# Altium footprint library Connector_IDC.PcbLib: 182 footprints (part 8 of 12)
Each footprint in its own frame and in the unit in brackets; x right, y up, seen from the top. Pads: shape width x height; smd on the part's side, far side on the other; paste and mask are expansions set on the pad; w line width, h text height; cw(c..) or ccw(c..) is an arc to the next point about the centre after c.
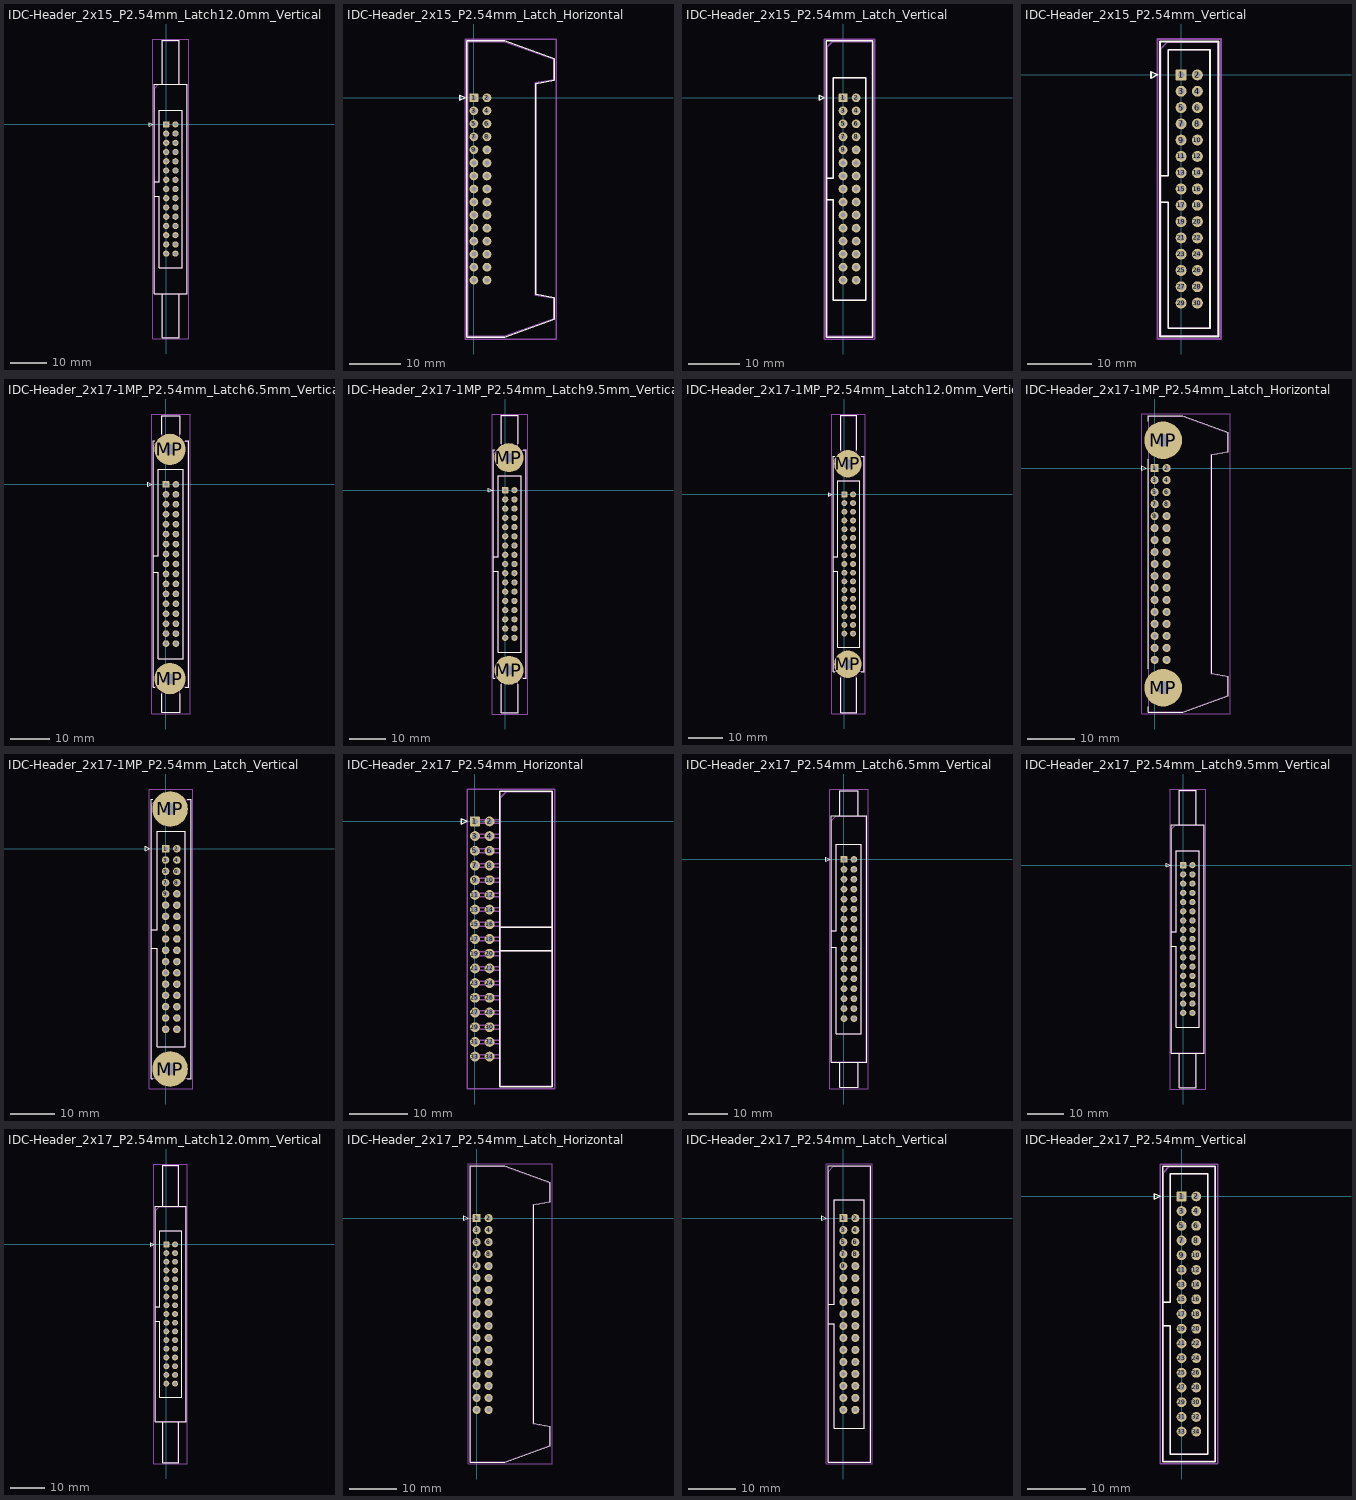
[diagram p7: the footprints below, top view; thin cyan lines are the x and y axes]

## IDC-Header_2x15_P2.54mm_Latch12.0mm_Vertical [mm]
pads (30):
  rrect15% 1.7x1.7 hole 1: 1(0,0)
  round 1.7 hole 1: 2(2.54,0) 3(0,-2.54) 4(2.54,-2.54) 5(0,-5.08) 6(2.54,-5.08) 7(0,-7.62) 8(2.54,-7.62) 9(0,-10.16) 10(2.54,-10.16) 11(0,-12.7) 12(2.54,-12.7) 13(0,-15.24) 14(2.54,-15.24) 15(0,-17.78) 16(2.54,-17.78) 17(0,-20.32) 18(2.54,-20.32) 19(0,-22.86) 20(2.54,-22.86) 21(0,-25.4) 22(2.54,-25.4) 23(0,-27.94) 24(2.54,-27.94) 25(0,-30.48) 26(2.54,-30.48) 27(0,-33.02) 28(2.54,-33.02) 29(0,-35.56) 30(2.54,-35.56)
F.SilkS:
  lines w0.254: -3.24,-19.83 -1.93,-19.83 -1.93,-39.48 4.47,-39.48 4.47,3.92 -1.93,3.92 -1.93,-15.73 -3.24,-15.73 ; -1.04,-46.64 -1.04,-58.64 3.58,-58.64 3.58,-46.64 ; -1.04,11.08 -1.04,23.08 3.58,23.08 3.58,11.08 ; -4.63,-0.5 -3.63,0 -4.63,0.5 -4.63,-0.5 ; -3.24,-46.64 5.78,-46.64 5.78,11.08 -3.24,11.08 -3.24,-46.64
Top Assembly:
  lines w0.254: -3.13,-19.83 -1.93,-19.83 -1.93,-39.48 4.47,-39.48 4.47,3.92 -1.93,3.92 -1.93,-15.73 -3.13,-15.73 ; -0.93,-46.53 -0.93,-58.53 3.47,-58.53 3.47,-46.53 ; -0.93,10.97 -0.93,22.97 3.47,22.97 3.47,10.97 ; -3.13,-46.53 5.67,-46.53 5.67,10.97 -2.13,10.97 -3.13,9.97 -3.13,-46.53
  text "'.Designator'" at 2.11,-21.827 h1
Top Courtyard:
  lines w0.254: -3.63,-59.03 6.17,-59.03 6.17,23.47 -3.63,23.47 -3.63,-59.03
Top Designator:
  text ".Designator" at -6.848,-18.288 h1.52

## IDC-Header_2x15_P2.54mm_Latch_Horizontal [mm]
pads (30):
  rrect15% 1.7x1.7 hole 1: 1(0,0)
  round 1.7 hole 1: 2(2.54,0) 3(0,-2.54) 4(2.54,-2.54) 5(0,-5.08) 6(2.54,-5.08) 7(0,-7.62) 8(2.54,-7.62) 9(0,-10.16) 10(2.54,-10.16) 11(0,-12.7) 12(2.54,-12.7) 13(0,-15.24) 14(2.54,-15.24) 15(0,-17.78) 16(2.54,-17.78) 17(0,-20.32) 18(2.54,-20.32) 19(0,-22.86) 20(2.54,-22.86) 21(0,-25.4) 22(2.54,-25.4) 23(0,-27.94) 24(2.54,-27.94) 25(0,-30.48) 26(2.54,-30.48) 27(0,-33.02) 28(2.54,-33.02) 29(0,-35.56) 30(2.54,-35.56)
F.SilkS:
  lines w0.254: -2.74,-0.5 -1.74,0 -2.74,0.5 -2.74,-0.5 ; -1.35,-46.64 5.98,-46.64 15.64,-43.17 15.64,-38.98 12.08,-38.35 12.08,2.79 15.64,3.42 15.64,7.61 5.98,11.08 -1.35,11.08 -1.35,-46.64
Top Assembly:
  lines w0.254: -1.24,-46.53 5.87,-46.53 15.53,-43.06 15.53,-39.09 11.97,-38.46 11.97,2.9 15.53,3.53 15.53,7.5 5.87,10.97 -1.24,10.97 -1.24,-46.53
  text "'.Designator'" at 7.985,-21.827 h1
Top Courtyard:
  lines w0.254: -1.74,-47.03 16.03,-47.03 16.03,11.47 -1.74,11.47 -1.74,-47.03
Top Designator:
  text ".Designator" at -0.973,-18.288 h1.52

## IDC-Header_2x15_P2.54mm_Latch_Vertical [mm]
pads (30):
  rrect15% 1.7x1.7 hole 1: 1(0,0)
  round 1.7 hole 1: 2(2.54,0) 3(0,-2.54) 4(2.54,-2.54) 5(0,-5.08) 6(2.54,-5.08) 7(0,-7.62) 8(2.54,-7.62) 9(0,-10.16) 10(2.54,-10.16) 11(0,-12.7) 12(2.54,-12.7) 13(0,-15.24) 14(2.54,-15.24) 15(0,-17.78) 16(2.54,-17.78) 17(0,-20.32) 18(2.54,-20.32) 19(0,-22.86) 20(2.54,-22.86) 21(0,-25.4) 22(2.54,-25.4) 23(0,-27.94) 24(2.54,-27.94) 25(0,-30.48) 26(2.54,-30.48) 27(0,-33.02) 28(2.54,-33.02) 29(0,-35.56) 30(2.54,-35.56)
F.SilkS:
  lines w0.254: -3.24,-19.83 -1.93,-19.83 -1.93,-39.48 4.47,-39.48 4.47,3.92 -1.93,3.92 -1.93,-15.73 -3.24,-15.73 ; -4.63,-0.5 -3.63,0 -4.63,0.5 -4.63,-0.5 ; -3.24,-46.64 5.78,-46.64 5.78,11.08 -3.24,11.08 -3.24,-46.64
Top Assembly:
  lines w0.254: -3.13,-19.83 -1.93,-19.83 -1.93,-39.48 4.47,-39.48 4.47,3.92 -1.93,3.92 -1.93,-15.73 -3.13,-15.73 ; -3.13,-46.53 5.67,-46.53 5.67,10.97 -2.13,10.97 -3.13,9.97 -3.13,-46.53
  text "'.Designator'" at 2.11,-21.827 h1
Top Courtyard:
  lines w0.254: -3.63,-47.03 6.17,-47.03 6.17,11.47 -3.63,11.47 -3.63,-47.03
Top Designator:
  text ".Designator" at -6.848,-18.288 h1.52

## IDC-Header_2x15_P2.54mm_Vertical [mm]
pads (30):
  rrect15% 1.7x1.7 hole 1: 1(0,0)
  round 1.7 hole 1: 2(2.54,0) 3(0,-2.54) 4(2.54,-2.54) 5(0,-5.08) 6(2.54,-5.08) 7(0,-7.62) 8(2.54,-7.62) 9(0,-10.16) 10(2.54,-10.16) 11(0,-12.7) 12(2.54,-12.7) 13(0,-15.24) 14(2.54,-15.24) 15(0,-17.78) 16(2.54,-17.78) 17(0,-20.32) 18(2.54,-20.32) 19(0,-22.86) 20(2.54,-22.86) 21(0,-25.4) 22(2.54,-25.4) 23(0,-27.94) 24(2.54,-27.94) 25(0,-30.48) 26(2.54,-30.48) 27(0,-33.02) 28(2.54,-33.02) 29(0,-35.56) 30(2.54,-35.56)
F.SilkS:
  lines w0.254: -3.29,-19.83 -1.98,-19.83 -1.98,-39.47 4.52,-39.47 4.52,3.91 -1.98,3.91 -1.98,-15.73 -3.29,-15.73 ; -4.68,-0.5 -3.68,0 -4.68,0.5 -4.68,-0.5 ; -3.29,-40.77 5.83,-40.77 5.83,5.21 -3.29,5.21 -3.29,-40.77
Top Assembly:
  lines w0.254: -3.18,-19.83 -1.98,-19.83 -1.98,-39.47 4.52,-39.47 4.52,3.91 -1.98,3.91 -1.98,-15.73 -3.18,-15.73 ; -3.18,-40.66 5.72,-40.66 5.72,5.1 -2.18,5.1 -3.18,4.1 -3.18,-40.66
  text "'.Designator'" at 2.11,-21.827 h1
Top Courtyard:
  lines w0.254: -3.68,-41.16 6.22,-41.16 6.22,5.6 -3.68,5.6 -3.68,-41.16
Top Designator:
  text ".Designator" at -6.848,-18.288 h1.52

## IDC-Header_2x17-1MP_P2.54mm_Latch6.5mm_Vertical [mm]
pads (36):
  rrect15% 1.7x1.7 hole 1: 1(0,0)
  round 1.7 hole 1: 2(2.54,0) 3(0,-2.54) 4(2.54,-2.54) 5(0,-5.08) 6(2.54,-5.08) 7(0,-7.62) 8(2.54,-7.62) 9(0,-10.16) 10(2.54,-10.16) 11(0,-12.7) 12(2.54,-12.7) 13(0,-15.24) 14(2.54,-15.24) 15(0,-17.78) 16(2.54,-17.78) 17(0,-20.32) 18(2.54,-20.32) 19(0,-22.86) 20(2.54,-22.86) 21(0,-25.4) 22(2.54,-25.4) 23(0,-27.94) 24(2.54,-27.94) 25(0,-30.48) 26(2.54,-30.48) 27(0,-33.02) 28(2.54,-33.02) 29(0,-35.56) 30(2.54,-35.56) 31(0,-38.1) 32(2.54,-38.1) 33(0,-40.64) 34(2.54,-40.64)
  round 8 hole 2.69: MP(1.02,-49.58) MP(1.02,8.94)
F.SilkS:
  lines w0.254: -3.24,-22.37 -1.93,-22.37 -1.93,-44.56 4.47,-44.56 4.47,3.92 -1.93,3.92 -1.93,-18.27 -3.24,-18.27 ; -2.87,-51.72 -3.24,-51.72 -3.24,11.08 -2.87,11.08 ; -1.04,-53.47 -1.04,-58.22 3.58,-58.22 3.58,-53.47 ; -1.04,12.83 -1.04,17.58 3.58,17.58 3.58,12.83 ; 4.91,-51.72 5.78,-51.72 5.78,11.08 4.91,11.08 ; -4.63,-0.5 -3.63,0 -4.63,0.5 -4.63,-0.5
Top Assembly:
  lines w0.254: -3.13,-22.37 -1.93,-22.37 -1.93,-44.56 4.47,-44.56 4.47,3.92 -1.93,3.92 -1.93,-18.27 -3.13,-18.27 ; -0.93,-51.61 -0.93,-58.11 3.47,-58.11 3.47,-51.61 ; -0.93,10.97 -0.93,17.47 3.47,17.47 3.47,10.97 ; -3.13,-51.61 5.67,-51.61 5.67,10.97 -2.13,10.97 -3.13,9.97 -3.13,-51.61
  text "'.Designator'" at 2.11,-24.367 h1
Top Courtyard:
  lines w0.254: -3.63,-58.61 6.17,-58.61 6.17,17.97 -3.63,17.97 -3.63,-58.61
Top Designator:
  text ".Designator" at -6.848,-20.828 h1.52

## IDC-Header_2x17-1MP_P2.54mm_Latch9.5mm_Vertical [mm]
pads (36):
  rrect15% 1.7x1.7 hole 1: 1(0,0)
  round 1.7 hole 1: 2(2.54,0) 3(0,-2.54) 4(2.54,-2.54) 5(0,-5.08) 6(2.54,-5.08) 7(0,-7.62) 8(2.54,-7.62) 9(0,-10.16) 10(2.54,-10.16) 11(0,-12.7) 12(2.54,-12.7) 13(0,-15.24) 14(2.54,-15.24) 15(0,-17.78) 16(2.54,-17.78) 17(0,-20.32) 18(2.54,-20.32) 19(0,-22.86) 20(2.54,-22.86) 21(0,-25.4) 22(2.54,-25.4) 23(0,-27.94) 24(2.54,-27.94) 25(0,-30.48) 26(2.54,-30.48) 27(0,-33.02) 28(2.54,-33.02) 29(0,-35.56) 30(2.54,-35.56) 31(0,-38.1) 32(2.54,-38.1) 33(0,-40.64) 34(2.54,-40.64)
  round 8 hole 2.69: MP(1.02,-49.58) MP(1.02,8.94)
F.SilkS:
  lines w0.254: -3.24,-22.37 -1.93,-22.37 -1.93,-44.56 4.47,-44.56 4.47,3.92 -1.93,3.92 -1.93,-18.27 -3.24,-18.27 ; -2.87,-51.72 -3.24,-51.72 -3.24,11.08 -2.87,11.08 ; -1.04,-53.47 -1.04,-61.22 3.58,-61.22 3.58,-53.47 ; -1.04,12.83 -1.04,20.58 3.58,20.58 3.58,12.83 ; 4.91,-51.72 5.78,-51.72 5.78,11.08 4.91,11.08 ; -4.63,-0.5 -3.63,0 -4.63,0.5 -4.63,-0.5
Top Assembly:
  lines w0.254: -3.13,-22.37 -1.93,-22.37 -1.93,-44.56 4.47,-44.56 4.47,3.92 -1.93,3.92 -1.93,-18.27 -3.13,-18.27 ; -0.93,-51.61 -0.93,-61.11 3.47,-61.11 3.47,-51.61 ; -0.93,10.97 -0.93,20.47 3.47,20.47 3.47,10.97 ; -3.13,-51.61 5.67,-51.61 5.67,10.97 -2.13,10.97 -3.13,9.97 -3.13,-51.61
  text "'.Designator'" at 2.11,-24.367 h1
Top Courtyard:
  lines w0.254: -3.63,-61.61 6.17,-61.61 6.17,20.97 -3.63,20.97 -3.63,-61.61
Top Designator:
  text ".Designator" at -6.848,-20.828 h1.52

## IDC-Header_2x17-1MP_P2.54mm_Latch12.0mm_Vertical [mm]
pads (36):
  rrect15% 1.7x1.7 hole 1: 1(0,0)
  round 1.7 hole 1: 2(2.54,0) 3(0,-2.54) 4(2.54,-2.54) 5(0,-5.08) 6(2.54,-5.08) 7(0,-7.62) 8(2.54,-7.62) 9(0,-10.16) 10(2.54,-10.16) 11(0,-12.7) 12(2.54,-12.7) 13(0,-15.24) 14(2.54,-15.24) 15(0,-17.78) 16(2.54,-17.78) 17(0,-20.32) 18(2.54,-20.32) 19(0,-22.86) 20(2.54,-22.86) 21(0,-25.4) 22(2.54,-25.4) 23(0,-27.94) 24(2.54,-27.94) 25(0,-30.48) 26(2.54,-30.48) 27(0,-33.02) 28(2.54,-33.02) 29(0,-35.56) 30(2.54,-35.56) 31(0,-38.1) 32(2.54,-38.1) 33(0,-40.64) 34(2.54,-40.64)
  round 8 hole 2.69: MP(1.02,-49.58) MP(1.02,8.94)
F.SilkS:
  lines w0.254: -3.24,-22.37 -1.93,-22.37 -1.93,-44.56 4.47,-44.56 4.47,3.92 -1.93,3.92 -1.93,-18.27 -3.24,-18.27 ; -2.87,-51.72 -3.24,-51.72 -3.24,11.08 -2.87,11.08 ; -1.04,-53.47 -1.04,-63.72 3.58,-63.72 3.58,-53.47 ; -1.04,12.83 -1.04,23.08 3.58,23.08 3.58,12.83 ; 4.91,-51.72 5.78,-51.72 5.78,11.08 4.91,11.08 ; -4.63,-0.5 -3.63,0 -4.63,0.5 -4.63,-0.5
Top Assembly:
  lines w0.254: -3.13,-22.37 -1.93,-22.37 -1.93,-44.56 4.47,-44.56 4.47,3.92 -1.93,3.92 -1.93,-18.27 -3.13,-18.27 ; -0.93,-51.61 -0.93,-63.61 3.47,-63.61 3.47,-51.61 ; -0.93,10.97 -0.93,22.97 3.47,22.97 3.47,10.97 ; -3.13,-51.61 5.67,-51.61 5.67,10.97 -2.13,10.97 -3.13,9.97 -3.13,-51.61
  text "'.Designator'" at 2.11,-24.367 h1
Top Courtyard:
  lines w0.254: -3.63,-64.11 6.17,-64.11 6.17,23.47 -3.63,23.47 -3.63,-64.11
Top Designator:
  text ".Designator" at -6.848,-20.828 h1.52

## IDC-Header_2x17-1MP_P2.54mm_Latch_Horizontal [mm]
pads (36):
  rrect15% 1.7x1.7 hole 1: 1(0,0)
  round 1.7 hole 1: 2(2.54,0) 3(0,-2.54) 4(2.54,-2.54) 5(0,-5.08) 6(2.54,-5.08) 7(0,-7.62) 8(2.54,-7.62) 9(0,-10.16) 10(2.54,-10.16) 11(0,-12.7) 12(2.54,-12.7) 13(0,-15.24) 14(2.54,-15.24) 15(0,-17.78) 16(2.54,-17.78) 17(0,-20.32) 18(2.54,-20.32) 19(0,-22.86) 20(2.54,-22.86) 21(0,-25.4) 22(2.54,-25.4) 23(0,-27.94) 24(2.54,-27.94) 25(0,-30.48) 26(2.54,-30.48) 27(0,-33.02) 28(2.54,-33.02) 29(0,-35.56) 30(2.54,-35.56) 31(0,-38.1) 32(2.54,-38.1) 33(0,-40.64) 34(2.54,-40.64)
  round 8 hole 2.69: MP(1.8,-46.545) MP(1.8,5.905)
F.SilkS:
  lines w0.254: -1.35,-50.545 -1.35,-51.72 5.98,-51.72 15.64,-48.25 15.64,-44.06 12.08,-43.43 12.08,2.79 15.64,3.42 15.64,7.61 5.98,11.08 -1.35,11.08 -1.35,9.905 ; -1.35,-42.545 -1.35,1.905 ; -2.74,-0.5 -1.74,0 -2.74,0.5 -2.74,-0.5
Top Assembly:
  lines w0.254: -1.24,-51.61 5.87,-51.61 15.53,-48.14 15.53,-44.17 11.97,-43.54 11.97,2.9 15.53,3.53 15.53,7.5 5.87,10.97 -1.24,10.97 -1.24,-51.61
  text "'.Designator'" at 7.985,-24.367 h1
Top Courtyard:
  lines w0.254: -2.7,-52.11 16.03,-52.11 16.03,11.47 -2.7,11.47 -2.7,-52.11
Top Designator:
  text ".Designator" at -0.973,-20.828 h1.52

## IDC-Header_2x17-1MP_P2.54mm_Latch_Vertical [mm]
pads (36):
  rrect15% 1.7x1.7 hole 1: 1(0,0)
  round 1.7 hole 1: 2(2.54,0) 3(0,-2.54) 4(2.54,-2.54) 5(0,-5.08) 6(2.54,-5.08) 7(0,-7.62) 8(2.54,-7.62) 9(0,-10.16) 10(2.54,-10.16) 11(0,-12.7) 12(2.54,-12.7) 13(0,-15.24) 14(2.54,-15.24) 15(0,-17.78) 16(2.54,-17.78) 17(0,-20.32) 18(2.54,-20.32) 19(0,-22.86) 20(2.54,-22.86) 21(0,-25.4) 22(2.54,-25.4) 23(0,-27.94) 24(2.54,-27.94) 25(0,-30.48) 26(2.54,-30.48) 27(0,-33.02) 28(2.54,-33.02) 29(0,-35.56) 30(2.54,-35.56) 31(0,-38.1) 32(2.54,-38.1) 33(0,-40.64) 34(2.54,-40.64)
  round 8 hole 2.69: MP(1.02,-49.58) MP(1.02,8.94)
F.SilkS:
  lines w0.254: -3.24,-22.37 -1.93,-22.37 -1.93,-44.56 4.47,-44.56 4.47,3.92 -1.93,3.92 -1.93,-18.27 -3.24,-18.27 ; -2.87,-51.72 -3.24,-51.72 -3.24,11.08 -2.87,11.08 ; 4.91,-51.72 5.78,-51.72 5.78,11.08 4.91,11.08 ; -4.63,-0.5 -3.63,0 -4.63,0.5 -4.63,-0.5
Top Assembly:
  lines w0.254: -3.13,-22.37 -1.93,-22.37 -1.93,-44.56 4.47,-44.56 4.47,3.92 -1.93,3.92 -1.93,-18.27 -3.13,-18.27 ; -3.13,-51.61 5.67,-51.61 5.67,10.97 -2.13,10.97 -3.13,9.97 -3.13,-51.61
  text "'.Designator'" at 2.11,-24.367 h1
Top Courtyard:
  lines w0.254: -3.63,-54.08 6.17,-54.08 6.17,13.44 -3.63,13.44 -3.63,-54.08
Top Designator:
  text ".Designator" at -6.848,-20.828 h1.52

## IDC-Header_2x17_P2.54mm_Horizontal [mm]
pads (34):
  rrect15% 1.7x1.7 hole 1: 1(0,0)
  round 1.7 hole 1: 2(2.54,0) 3(0,-2.54) 4(2.54,-2.54) 5(0,-5.08) 6(2.54,-5.08) 7(0,-7.62) 8(2.54,-7.62) 9(0,-10.16) 10(2.54,-10.16) 11(0,-12.7) 12(2.54,-12.7) 13(0,-15.24) 14(2.54,-15.24) 15(0,-17.78) 16(2.54,-17.78) 17(0,-20.32) 18(2.54,-20.32) 19(0,-22.86) 20(2.54,-22.86) 21(0,-25.4) 22(2.54,-25.4) 23(0,-27.94) 24(2.54,-27.94) 25(0,-30.48) 26(2.54,-30.48) 27(0,-33.02) 28(2.54,-33.02) 29(0,-35.56) 30(2.54,-35.56) 31(0,-38.1) 32(2.54,-38.1) 33(0,-40.64) 34(2.54,-40.64)
F.SilkS:
  lines w0.254: 4.27,-22.37 13.39,-22.37 ; 4.27,-18.27 13.39,-18.27 ; -2.35,-0.5 -1.35,0 -2.35,0.5 -2.35,-0.5 ; 4.27,-45.85 13.39,-45.85 13.39,5.21 4.27,5.21 4.27,-45.85
Top Assembly:
  lines w0.254: 4.38,-40.96 -0.32,-40.96 -0.32,-40.32 4.38,-40.32 ; 4.38,-38.42 -0.32,-38.42 -0.32,-37.78 4.38,-37.78 ; 4.38,-35.88 -0.32,-35.88 -0.32,-35.24 4.38,-35.24 ; 4.38,-33.34 -0.32,-33.34 -0.32,-32.7 4.38,-32.7 ; 4.38,-30.8 -0.32,-30.8 -0.32,-30.16 4.38,-30.16 ; 4.38,-28.26 -0.32,-28.26 -0.32,-27.62 4.38,-27.62 ; 4.38,-25.72 -0.32,-25.72 -0.32,-25.08 4.38,-25.08 ; 4.38,-23.18 -0.32,-23.18 -0.32,-22.54 4.38,-22.54 ; 4.38,-22.37 13.28,-22.37 ; 4.38,-20.64 -0.32,-20.64 -0.32,-20 4.38,-20 ; 4.38,-18.27 13.28,-18.27 ; 4.38,-18.1 -0.32,-18.1 -0.32,-17.46 4.38,-17.46 ; 4.38,-15.56 -0.32,-15.56 -0.32,-14.92 4.38,-14.92 ; 4.38,-13.02 -0.32,-13.02 -0.32,-12.38 4.38,-12.38 ; 4.38,-10.48 -0.32,-10.48 -0.32,-9.84 4.38,-9.84 ; 4.38,-7.94 -0.32,-7.94 -0.32,-7.3 4.38,-7.3 ; 4.38,-5.4 -0.32,-5.4 -0.32,-4.76 4.38,-4.76 ; 4.38,-2.86 -0.32,-2.86 -0.32,-2.22 4.38,-2.22 ; 4.38,-0.32 -0.32,-0.32 -0.32,0.32 4.38,0.32 ; 4.38,-45.74 13.28,-45.74 13.28,5.1 5.38,5.1 4.38,4.1 4.38,-45.74
  text "'.Designator'" at 9.67,-24.367 h1
Top Courtyard:
  lines w0.254: -1.35,-46.24 13.78,-46.24 13.78,5.6 -1.35,5.6 -1.35,-46.24
Top Designator:
  text ".Designator" at -1.903,-20.828 h1.52

## IDC-Header_2x17_P2.54mm_Latch6.5mm_Vertical [mm]
pads (34):
  rrect15% 1.7x1.7 hole 1: 1(0,0)
  round 1.7 hole 1: 2(2.54,0) 3(0,-2.54) 4(2.54,-2.54) 5(0,-5.08) 6(2.54,-5.08) 7(0,-7.62) 8(2.54,-7.62) 9(0,-10.16) 10(2.54,-10.16) 11(0,-12.7) 12(2.54,-12.7) 13(0,-15.24) 14(2.54,-15.24) 15(0,-17.78) 16(2.54,-17.78) 17(0,-20.32) 18(2.54,-20.32) 19(0,-22.86) 20(2.54,-22.86) 21(0,-25.4) 22(2.54,-25.4) 23(0,-27.94) 24(2.54,-27.94) 25(0,-30.48) 26(2.54,-30.48) 27(0,-33.02) 28(2.54,-33.02) 29(0,-35.56) 30(2.54,-35.56) 31(0,-38.1) 32(2.54,-38.1) 33(0,-40.64) 34(2.54,-40.64)
F.SilkS:
  lines w0.254: -3.24,-22.37 -1.93,-22.37 -1.93,-44.56 4.47,-44.56 4.47,3.92 -1.93,3.92 -1.93,-18.27 -3.24,-18.27 ; -1.04,-51.72 -1.04,-58.22 3.58,-58.22 3.58,-51.72 ; -1.04,11.08 -1.04,17.58 3.58,17.58 3.58,11.08 ; -4.63,-0.5 -3.63,0 -4.63,0.5 -4.63,-0.5 ; -3.24,-51.72 5.78,-51.72 5.78,11.08 -3.24,11.08 -3.24,-51.72
Top Assembly:
  lines w0.254: -3.13,-22.37 -1.93,-22.37 -1.93,-44.56 4.47,-44.56 4.47,3.92 -1.93,3.92 -1.93,-18.27 -3.13,-18.27 ; -0.93,-51.61 -0.93,-58.11 3.47,-58.11 3.47,-51.61 ; -0.93,10.97 -0.93,17.47 3.47,17.47 3.47,10.97 ; -3.13,-51.61 5.67,-51.61 5.67,10.97 -2.13,10.97 -3.13,9.97 -3.13,-51.61
  text "'.Designator'" at 2.11,-24.367 h1
Top Courtyard:
  lines w0.254: -3.63,-58.61 6.17,-58.61 6.17,17.97 -3.63,17.97 -3.63,-58.61
Top Designator:
  text ".Designator" at -6.848,-20.828 h1.52

## IDC-Header_2x17_P2.54mm_Latch9.5mm_Vertical [mm]
pads (34):
  rrect15% 1.7x1.7 hole 1: 1(0,0)
  round 1.7 hole 1: 2(2.54,0) 3(0,-2.54) 4(2.54,-2.54) 5(0,-5.08) 6(2.54,-5.08) 7(0,-7.62) 8(2.54,-7.62) 9(0,-10.16) 10(2.54,-10.16) 11(0,-12.7) 12(2.54,-12.7) 13(0,-15.24) 14(2.54,-15.24) 15(0,-17.78) 16(2.54,-17.78) 17(0,-20.32) 18(2.54,-20.32) 19(0,-22.86) 20(2.54,-22.86) 21(0,-25.4) 22(2.54,-25.4) 23(0,-27.94) 24(2.54,-27.94) 25(0,-30.48) 26(2.54,-30.48) 27(0,-33.02) 28(2.54,-33.02) 29(0,-35.56) 30(2.54,-35.56) 31(0,-38.1) 32(2.54,-38.1) 33(0,-40.64) 34(2.54,-40.64)
F.SilkS:
  lines w0.254: -3.24,-22.37 -1.93,-22.37 -1.93,-44.56 4.47,-44.56 4.47,3.92 -1.93,3.92 -1.93,-18.27 -3.24,-18.27 ; -1.04,-51.72 -1.04,-61.22 3.58,-61.22 3.58,-51.72 ; -1.04,11.08 -1.04,20.58 3.58,20.58 3.58,11.08 ; -4.63,-0.5 -3.63,0 -4.63,0.5 -4.63,-0.5 ; -3.24,-51.72 5.78,-51.72 5.78,11.08 -3.24,11.08 -3.24,-51.72
Top Assembly:
  lines w0.254: -3.13,-22.37 -1.93,-22.37 -1.93,-44.56 4.47,-44.56 4.47,3.92 -1.93,3.92 -1.93,-18.27 -3.13,-18.27 ; -0.93,-51.61 -0.93,-61.11 3.47,-61.11 3.47,-51.61 ; -0.93,10.97 -0.93,20.47 3.47,20.47 3.47,10.97 ; -3.13,-51.61 5.67,-51.61 5.67,10.97 -2.13,10.97 -3.13,9.97 -3.13,-51.61
  text "'.Designator'" at 2.11,-24.367 h1
Top Courtyard:
  lines w0.254: -3.63,-61.61 6.17,-61.61 6.17,20.97 -3.63,20.97 -3.63,-61.61
Top Designator:
  text ".Designator" at -6.848,-20.828 h1.52

## IDC-Header_2x17_P2.54mm_Latch12.0mm_Vertical [mm]
pads (34):
  rrect15% 1.7x1.7 hole 1: 1(0,0)
  round 1.7 hole 1: 2(2.54,0) 3(0,-2.54) 4(2.54,-2.54) 5(0,-5.08) 6(2.54,-5.08) 7(0,-7.62) 8(2.54,-7.62) 9(0,-10.16) 10(2.54,-10.16) 11(0,-12.7) 12(2.54,-12.7) 13(0,-15.24) 14(2.54,-15.24) 15(0,-17.78) 16(2.54,-17.78) 17(0,-20.32) 18(2.54,-20.32) 19(0,-22.86) 20(2.54,-22.86) 21(0,-25.4) 22(2.54,-25.4) 23(0,-27.94) 24(2.54,-27.94) 25(0,-30.48) 26(2.54,-30.48) 27(0,-33.02) 28(2.54,-33.02) 29(0,-35.56) 30(2.54,-35.56) 31(0,-38.1) 32(2.54,-38.1) 33(0,-40.64) 34(2.54,-40.64)
F.SilkS:
  lines w0.254: -3.24,-22.37 -1.93,-22.37 -1.93,-44.56 4.47,-44.56 4.47,3.92 -1.93,3.92 -1.93,-18.27 -3.24,-18.27 ; -1.04,-51.72 -1.04,-63.72 3.58,-63.72 3.58,-51.72 ; -1.04,11.08 -1.04,23.08 3.58,23.08 3.58,11.08 ; -4.63,-0.5 -3.63,0 -4.63,0.5 -4.63,-0.5 ; -3.24,-51.72 5.78,-51.72 5.78,11.08 -3.24,11.08 -3.24,-51.72
Top Assembly:
  lines w0.254: -3.13,-22.37 -1.93,-22.37 -1.93,-44.56 4.47,-44.56 4.47,3.92 -1.93,3.92 -1.93,-18.27 -3.13,-18.27 ; -0.93,-51.61 -0.93,-63.61 3.47,-63.61 3.47,-51.61 ; -0.93,10.97 -0.93,22.97 3.47,22.97 3.47,10.97 ; -3.13,-51.61 5.67,-51.61 5.67,10.97 -2.13,10.97 -3.13,9.97 -3.13,-51.61
  text "'.Designator'" at 2.11,-24.367 h1
Top Courtyard:
  lines w0.254: -3.63,-64.11 6.17,-64.11 6.17,23.47 -3.63,23.47 -3.63,-64.11
Top Designator:
  text ".Designator" at -6.848,-20.828 h1.52

## IDC-Header_2x17_P2.54mm_Latch_Horizontal [mm]
pads (34):
  rrect15% 1.7x1.7 hole 1: 1(0,0)
  round 1.7 hole 1: 2(2.54,0) 3(0,-2.54) 4(2.54,-2.54) 5(0,-5.08) 6(2.54,-5.08) 7(0,-7.62) 8(2.54,-7.62) 9(0,-10.16) 10(2.54,-10.16) 11(0,-12.7) 12(2.54,-12.7) 13(0,-15.24) 14(2.54,-15.24) 15(0,-17.78) 16(2.54,-17.78) 17(0,-20.32) 18(2.54,-20.32) 19(0,-22.86) 20(2.54,-22.86) 21(0,-25.4) 22(2.54,-25.4) 23(0,-27.94) 24(2.54,-27.94) 25(0,-30.48) 26(2.54,-30.48) 27(0,-33.02) 28(2.54,-33.02) 29(0,-35.56) 30(2.54,-35.56) 31(0,-38.1) 32(2.54,-38.1) 33(0,-40.64) 34(2.54,-40.64)
F.SilkS:
  lines w0.254: -2.74,-0.5 -1.74,0 -2.74,0.5 -2.74,-0.5 ; -1.35,-51.72 5.98,-51.72 15.64,-48.25 15.64,-44.06 12.08,-43.43 12.08,2.79 15.64,3.42 15.64,7.61 5.98,11.08 -1.35,11.08 -1.35,-51.72
Top Assembly:
  lines w0.254: -1.24,-51.61 5.87,-51.61 15.53,-48.14 15.53,-44.17 11.97,-43.54 11.97,2.9 15.53,3.53 15.53,7.5 5.87,10.97 -1.24,10.97 -1.24,-51.61
  text "'.Designator'" at 7.985,-24.367 h1
Top Courtyard:
  lines w0.254: -1.74,-52.11 16.03,-52.11 16.03,11.47 -1.74,11.47 -1.74,-52.11
Top Designator:
  text ".Designator" at -0.973,-20.828 h1.52

## IDC-Header_2x17_P2.54mm_Latch_Vertical [mm]
pads (34):
  rrect15% 1.7x1.7 hole 1: 1(0,0)
  round 1.7 hole 1: 2(2.54,0) 3(0,-2.54) 4(2.54,-2.54) 5(0,-5.08) 6(2.54,-5.08) 7(0,-7.62) 8(2.54,-7.62) 9(0,-10.16) 10(2.54,-10.16) 11(0,-12.7) 12(2.54,-12.7) 13(0,-15.24) 14(2.54,-15.24) 15(0,-17.78) 16(2.54,-17.78) 17(0,-20.32) 18(2.54,-20.32) 19(0,-22.86) 20(2.54,-22.86) 21(0,-25.4) 22(2.54,-25.4) 23(0,-27.94) 24(2.54,-27.94) 25(0,-30.48) 26(2.54,-30.48) 27(0,-33.02) 28(2.54,-33.02) 29(0,-35.56) 30(2.54,-35.56) 31(0,-38.1) 32(2.54,-38.1) 33(0,-40.64) 34(2.54,-40.64)
F.SilkS:
  lines w0.254: -3.24,-22.37 -1.93,-22.37 -1.93,-44.56 4.47,-44.56 4.47,3.92 -1.93,3.92 -1.93,-18.27 -3.24,-18.27 ; -4.63,-0.5 -3.63,0 -4.63,0.5 -4.63,-0.5 ; -3.24,-51.72 5.78,-51.72 5.78,11.08 -3.24,11.08 -3.24,-51.72
Top Assembly:
  lines w0.254: -3.13,-22.37 -1.93,-22.37 -1.93,-44.56 4.47,-44.56 4.47,3.92 -1.93,3.92 -1.93,-18.27 -3.13,-18.27 ; -3.13,-51.61 5.67,-51.61 5.67,10.97 -2.13,10.97 -3.13,9.97 -3.13,-51.61
  text "'.Designator'" at 2.11,-24.367 h1
Top Courtyard:
  lines w0.254: -3.63,-52.11 6.17,-52.11 6.17,11.47 -3.63,11.47 -3.63,-52.11
Top Designator:
  text ".Designator" at -6.848,-20.828 h1.52

## IDC-Header_2x17_P2.54mm_Vertical [mm]
pads (34):
  rrect15% 1.7x1.7 hole 1: 1(0,0)
  round 1.7 hole 1: 2(2.54,0) 3(0,-2.54) 4(2.54,-2.54) 5(0,-5.08) 6(2.54,-5.08) 7(0,-7.62) 8(2.54,-7.62) 9(0,-10.16) 10(2.54,-10.16) 11(0,-12.7) 12(2.54,-12.7) 13(0,-15.24) 14(2.54,-15.24) 15(0,-17.78) 16(2.54,-17.78) 17(0,-20.32) 18(2.54,-20.32) 19(0,-22.86) 20(2.54,-22.86) 21(0,-25.4) 22(2.54,-25.4) 23(0,-27.94) 24(2.54,-27.94) 25(0,-30.48) 26(2.54,-30.48) 27(0,-33.02) 28(2.54,-33.02) 29(0,-35.56) 30(2.54,-35.56) 31(0,-38.1) 32(2.54,-38.1) 33(0,-40.64) 34(2.54,-40.64)
F.SilkS:
  lines w0.254: -3.29,-22.37 -1.98,-22.37 -1.98,-44.55 4.52,-44.55 4.52,3.91 -1.98,3.91 -1.98,-18.27 -3.29,-18.27 ; -4.68,-0.5 -3.68,0 -4.68,0.5 -4.68,-0.5 ; -3.29,-45.85 5.83,-45.85 5.83,5.21 -3.29,5.21 -3.29,-45.85
Top Assembly:
  lines w0.254: -3.18,-22.37 -1.98,-22.37 -1.98,-44.55 4.52,-44.55 4.52,3.91 -1.98,3.91 -1.98,-18.27 -3.18,-18.27 ; -3.18,-45.74 5.72,-45.74 5.72,5.1 -2.18,5.1 -3.18,4.1 -3.18,-45.74
  text "'.Designator'" at 2.11,-24.367 h1
Top Courtyard:
  lines w0.254: -3.68,-46.24 6.22,-46.24 6.22,5.6 -3.68,5.6 -3.68,-46.24
Top Designator:
  text ".Designator" at -6.848,-20.828 h1.52